# Altium integrated library Components.IntLib: 6 symbols
Pins are listed as number, name and electrical type; pins without a type are passive.

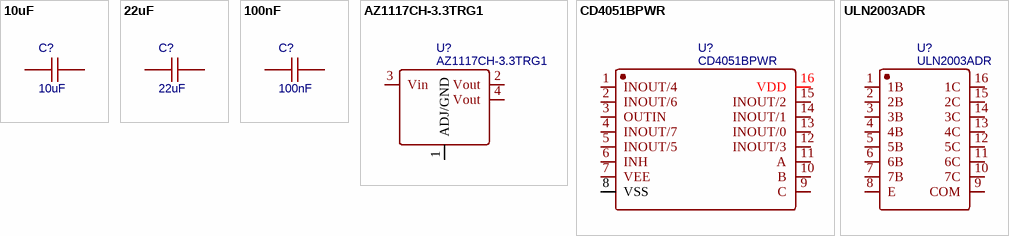
[diagram p0: symbols 10uF to ULN2003ADR]

## 10uF
designator C?
Manufacturer: SAMSUNG; Manufacture Part Number: CL21B106KOQNNNE; nameAlias: Capacitance; Supplier: LCSC; Supplier Part Number: C95841; spicePre: C; spiceSymbolName: CL21B106KOQNNNE
footprint C0805
pins: 1, 2

## 22uF
designator C?
Manufacturer: SAMSUNG; Manufacture Part Number: CL10A226MP8NUNE; nameAlias: Capacitance; SMT Type: Extend; Supplier: LCSC; Supplier Part Number: C86295; BOM_LCSC Assembly: Yes; spicePre: C; spiceSymbolName: CL10A226MP8NUNE
footprint C0603
pins: 1, 2

## 100nF
designator C?
Manufacturer: YAGEO; Manufacture Part Number: CC0603KRX7R9BB104; nameAlias: Capacitance; SMT Type: Basic; Supplier: LCSC; BOM_LCSC Assembly: Yes; Supplier Part Number: C14663; spicePre: C; spiceSymbolName: CC0603KRX7R9BB104
footprint C0603
pins: 1, 2

## AZ1117CH-3.3TRG1
designator U?
Manufacturer: DIODES; SMT Type: Extend; Supplier: LCSC; Manufacture Part Number: AZ1117CH-3.3TRG1; Supplier Part Number: C92102; BOM_LCSC Assembly: Yes; spicePre: U; spiceSymbolName: AZ1117CH-3.3TRG1
footprint SOT-223-3_L6.5-W3.4-P2.30-LS7.0-BR
pins: 1 ADJ/GND, 2 Vout, 3 Vin, 4 Vout

## CD4051BPWR
designator U?
Manufacturer: TI; SMT Type: Extend; Supplier: LCSC; Manufacture Part Number: CD4051BPWR; Supplier Part Number: C54587; BOM_LCSC Assembly: Yes; spicePre: U; spiceSymbolName: CD4051BPWR
footprint TSSOP-16_L5.0-W4.4-P0.65-LS6.4-BL
pins: 1 INOUT/4, 2 INOUT/6, 3 OUTIN, 4 INOUT/7, 5 INOUT/5, 6 INH, 7 VEE, 8 VSS, 9 C, 10 B, 11 A, 12 INOUT/3, 13 INOUT/0, 14 INOUT/1, 15 INOUT/2, 16 VDD

## ULN2003ADR
designator U?
Manufacturer: TI; SMT Type: Basic; spicePre: X; Supplier: LCSC; Manufacture Part Number: ULN2003ADR; image: //image.lceda.cn/szlcsc/C7512.jpg; Supplier Part Number: C7512; BOM_LCSC Assembly: Yes; spiceSymbolName: ULN2003ADR
footprint SOIC-16_L9.9-W3.9-P1.27-LS6.0-BL
pins: 1 1B, 2 2B, 3 3B, 4 4B, 5 5B, 6 6B, 7 7B, 8 E, 9 COM, 10 7C, 11 6C, 12 5C, 13 4C, 14 3C, 15 2C, 16 1C